# EAGLE library part CY8C21334 (library cypress)
PSoC® Programmable System-on-Chip? M8C Processor Speeds to 24 MHz Source: http://www.cypress.com .. 38-12025_0P_V.pdf
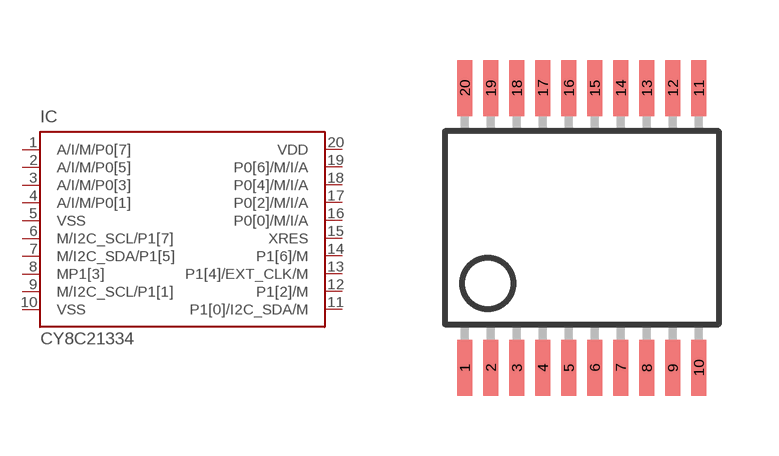
[diagram p16: symbol with the pads of SSOP20; footprint SSOP20]

Designator prefix IC

## CY8C21334  [SSOP20]
1  A/I/M/P0[7]
2  A/I/M/P0[5]
3  A/I/M/P0[3]
4  A/I/M/P0[1]
5  VSS  pwr
6  M/I2C_SCL/P1[7]
7  M/I2C_SDA/P1[5]
8  MP1[3]
9  M/I2C_SCL/P1[1]
10  VSS  pwr
11  P1[0]/I2C_SDA/M
12  P1[2]/M
13  P1[4]/EXT_CLK/M
14  P1[6]/M
15  XRES  in
16  P0[0]/M/I/A
17  P0[2]/M/I/A
18  P0[4]/M/I/A
19  P0[6]/M/I/A
20  VDD  pwr

## Footprint SSOP20 (pad centres in mm)
Small Shrink Outline Package 20-Pin (210-MIL) SSOP Source: http://www.cypress.com .. 38-12025_0P_V.pdf
smd 0.38 x 1.4: 1 -2.925,-3.5; 2 -2.275,-3.5; 3 -1.625,-3.5; 4 -0.975,-3.5; 5 -0.325,-3.5; 6 0.325,-3.5; 7 0.975,-3.5; 8 1.625,-3.5; 9 2.275,-3.5; 10 2.925,-3.5; 11 2.925,3.5; 12 2.275,3.5; 13 1.625,3.5; 14 0.975,3.5; 15 0.325,3.5; 16 -0.325,3.5; 17 -0.975,3.5; 18 -1.625,3.5; 19 -2.275,3.5; 20 -2.925,3.5